# Altium footprint library Fairchild Semiconductor Footprints.PcbLib: 86 footprints (part 1 of 6)
Each footprint in its own frame and in the unit in brackets; x right, y up, seen from the top. Pads: shape width x height; smd on the part's side, far side on the other; paste and mask are expansions set on the pad; w line width, h text height; cw(c..) or ccw(c..) is an arc to the next point about the centre after c.
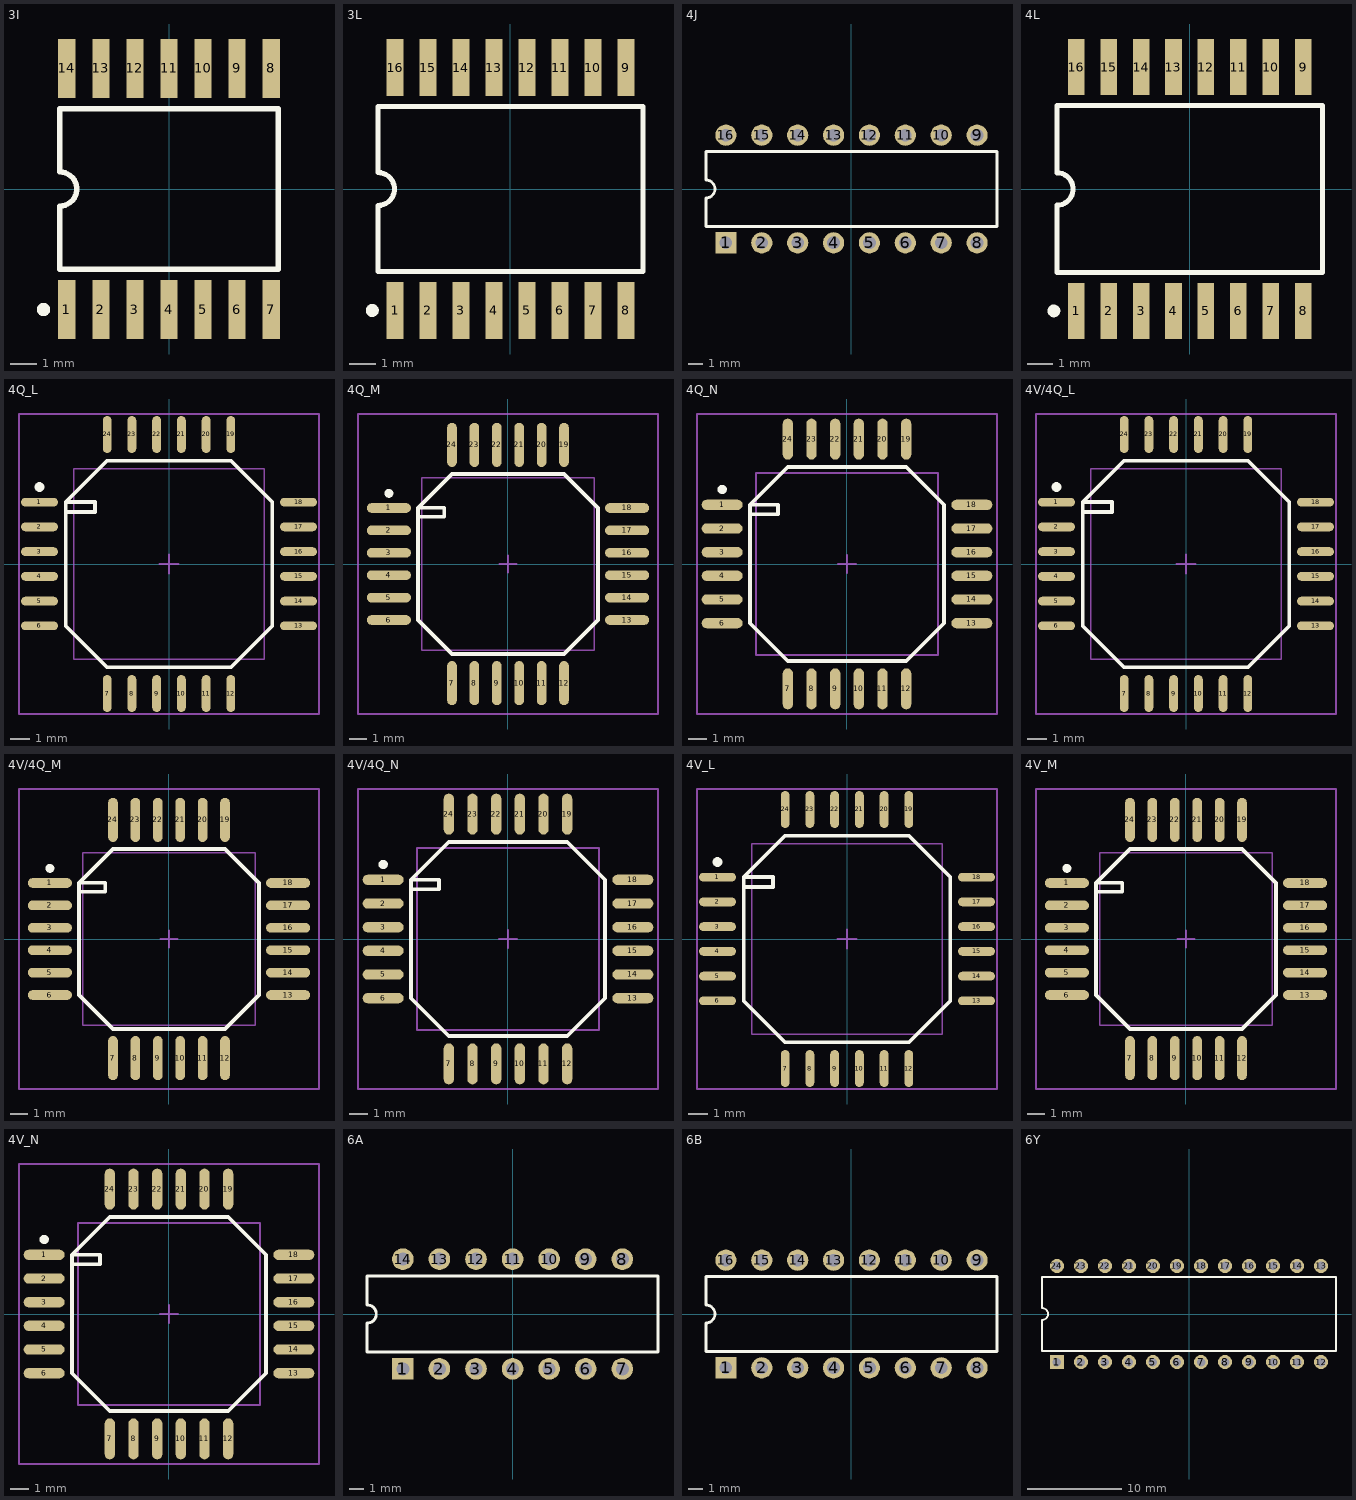
[diagram p0: the footprints below, top view; thin cyan lines are the x and y axes]

## 3I [mm] "DFP; 14 Leads; Body 8.1 x 6.6 mm (LxW max); Pitch 1.27 mm"
height 1.66
pads (14):
  rect 0.65x2.2 smd: 1(-3.81,-4.5) 2(-2.54,-4.5) 3(-1.27,-4.5) 4(0,-4.5) 5(1.27,-4.5) 6(2.54,-4.5) 7(3.81,-4.5) 8(3.81,4.5) 9(2.54,4.5) 10(1.27,4.5) 11(0,4.5) 12(-1.27,4.5) 13(-2.54,4.5) 14(-3.81,4.5)
Top Overlay:
  circle w0.25: c-4.685,-4.5 r0.125
  lines w0.2: -4.075,-3 -4.075,-0.635 ccw(c-4.075,0) -4.075,0.635 -4.075,3 4.075,3 4.075,-3 -4.075,-3

## 3L [mm] "DFP; 16 Leads; Body 10.2 x 7 mm (LxW max); Pitch 1.27 mm"
height 2.16
pads (16):
  rect 0.65x2.2 smd: 1(-4.445,-4.675) 2(-3.175,-4.675) 3(-1.905,-4.675) 4(-0.635,-4.675) 5(0.635,-4.675) 6(1.905,-4.675) 7(3.175,-4.675) 8(4.445,-4.675) 9(4.445,4.675) 10(3.175,4.675) 11(1.905,4.675) 12(0.635,4.675) 13(-0.635,4.675) 14(-1.905,4.675) 15(-3.175,4.675) 16(-4.445,4.675)
Top Overlay:
  circle w0.25: c-5.32,-4.675 r0.125
  lines w0.2: -5.1,-3.175 -5.1,-0.635 ccw(c-5.1,0) -5.1,0.635 -5.1,3.175 5.1,3.175 5.1,-3.175 -5.1,-3.175

## 4J [mm] "DIP; 16 Leads; Row Spacing 7.62 mm; Pitch 2.54 mm"
height 5.08
pads (16):
  rect 1.5x1.5 hole 0.9: 1(-8.89,-3.81)
  round 1.5 hole 0.9: 2(-6.35,-3.81) 3(-3.81,-3.81) 4(-1.27,-3.81) 5(1.27,-3.81) 6(3.81,-3.81) 7(6.35,-3.81) 8(8.89,-3.81) 9(8.89,3.81) 10(6.35,3.81) 11(3.81,3.81) 12(1.27,3.81) 13(-1.27,3.81) 14(-3.81,3.81) 15(-6.35,3.81) 16(-8.89,3.81)
Top Overlay:
  lines w0.2: -10.3,-2.65 -10.3,-0.635 ccw(c-10.3,0) -10.3,0.635 -10.3,2.65 10.3,2.65 10.3,-2.65 -10.3,-2.65

## 4L [mm] "DFP; 16 Leads; Body 10.4 x 7.2 mm (LxW max); Pitch 1.27 mm"
height 1.91
pads (16):
  rect 0.65x2.2 smd: 1(-4.445,-4.775) 2(-3.175,-4.775) 3(-1.905,-4.775) 4(-0.635,-4.775) 5(0.635,-4.775) 6(1.905,-4.775) 7(3.175,-4.775) 8(4.445,-4.775) 9(4.445,4.775) 10(3.175,4.775) 11(1.905,4.775) 12(0.635,4.775) 13(-0.635,4.775) 14(-1.905,4.775) 15(-3.175,4.775) 16(-4.445,4.775)
Top Overlay:
  circle w0.25: c-5.32,-4.775 r0.125
  lines w0.2: -5.2,-3.275 5.2,-3.275 5.2,3.275 -5.2,3.275 -5.2,0.635 cw(c-5.2,0) -5.2,-0.635 -5.2,-3.275

## 4Q_L [mm] "100-Pin Quad Cerpak 1.27 mm Pitch, IPC High Density"
height 2.2
pads (24):
  oval 1.9x0.45 smd: 1(-6.65,3.175) 2(-6.65,1.905) 3(-6.65,0.635) 4(-6.65,-0.635) 5(-6.65,-1.905) 6(-6.65,-3.175) 13(6.65,-3.175) 14(6.65,-1.905) 15(6.65,-0.635) 16(6.65,0.635) 17(6.65,1.905) 18(6.65,3.175)
  oval 0.45x1.9 smd: 7(-3.175,-6.65) 8(-1.905,-6.65) 9(-0.635,-6.65) 10(0.635,-6.65) 11(1.905,-6.65) 12(3.175,-6.65) 19(3.175,6.65) 20(1.905,6.65) 21(0.635,6.65) 22(-0.635,6.65) 23(-1.905,6.65) 24(-3.175,6.65)
Top Overlay:
  circle w0.25: c-6.65,3.95 r0.125
  lines w0.2: -5.3,2.675 -3.8,2.675 -3.8,3.175 -5.3,3.175 ; -5.3,3.175 -5.3,-3.175 -3.175,-5.3 3.175,-5.3 5.3,-3.175 5.3,3.175 3.175,5.3 -3.175,5.3 -5.3,3.175
Mechanical 13:
  lines w0.1: -4.89,-4.89 -4.89,4.89 4.89,4.89 4.89,-4.89 -4.89,-4.89
Mechanical 15:
  lines w0.1: -0.5,0 0.5,0 ; 0,-0.5 0,0.5 ; -7.7,-7.7 -7.7,7.7 7.7,7.7 7.7,-7.7 -7.7,-7.7
3D body: height 2.2, standoff 0, extent -4.89,-4.89 4.89,4.89

## 4Q_M [mm] "100-Pin Quad Cerpak 1.27 mm Pitch, IPC Low Density"
height 2.2
pads (24):
  oval 2.5x0.55 smd: 1(-6.75,3.175) 2(-6.75,1.905) 3(-6.75,0.635) 4(-6.75,-0.635) 5(-6.75,-1.905) 6(-6.75,-3.175) 13(6.75,-3.175) 14(6.75,-1.905) 15(6.75,-0.635) 16(6.75,0.635) 17(6.75,1.905) 18(6.75,3.175)
  oval 0.55x2.5 smd: 7(-3.175,-6.75) 8(-1.905,-6.75) 9(-0.635,-6.75) 10(0.635,-6.75) 11(1.905,-6.75) 12(3.175,-6.75) 19(3.175,6.75) 20(1.905,6.75) 21(0.635,6.75) 22(-0.635,6.75) 23(-1.905,6.75) 24(-3.175,6.75)
Top Overlay:
  circle w0.25: c-6.75,4 r0.125
  lines w0.2: -5.1,2.675 -3.6,2.675 -3.6,3.175 -5.1,3.175 ; -5.1,3.175 -3.175,5.1 3.175,5.1 5.1,3.175 5.1,-3.175 3.175,-5.1 -3.175,-5.1 -5.1,-3.175 -5.1,3.175
Mechanical 13:
  lines w0.1: -4.89,-4.89 4.89,-4.89 4.89,4.89 -4.89,4.89 -4.89,-4.89
Mechanical 15:
  lines w0.1: -0.5,0 0.5,0 ; 0,-0.5 0,0.5 ; -8.5,-8.5 8.5,-8.5 8.5,8.5 -8.5,8.5 -8.5,-8.5
3D body: height 2.2, standoff 0, extent -4.89,-4.89 4.89,4.89

## 4Q_N [mm] "100-Pin Quad Cerpak 1.27 mm Pitch, IPC Medium Density"
height 2.2
pads (24):
  oval 2.2x0.55 smd: 1(-6.7,3.175) 2(-6.7,1.905) 3(-6.7,0.635) 4(-6.7,-0.635) 5(-6.7,-1.905) 6(-6.7,-3.175) 13(6.7,-3.175) 14(6.7,-1.905) 15(6.7,-0.635) 16(6.7,0.635) 17(6.7,1.905) 18(6.7,3.175)
  oval 0.55x2.2 smd: 7(-3.175,-6.7) 8(-1.905,-6.7) 9(-0.635,-6.7) 10(0.635,-6.7) 11(1.905,-6.7) 12(3.175,-6.7) 19(3.175,6.7) 20(1.905,6.7) 21(0.635,6.7) 22(-0.635,6.7) 23(-1.905,6.7) 24(-3.175,6.7)
Top Overlay:
  circle w0.25: c-6.7,4 r0.125
  lines w0.2: -5.2,2.675 -3.7,2.675 -3.7,3.175 -5.2,3.175 ; -5.2,3.175 -5.2,-3.175 -3.175,-5.2 3.175,-5.2 5.2,-3.175 5.2,3.175 3.175,5.2 -3.175,5.2 -5.2,3.175
Mechanical 13:
  lines w0.1: -4.89,-4.89 -4.89,4.89 4.89,4.89 4.89,-4.89 -4.89,-4.89
Mechanical 15:
  lines w0.1: -0.5,0 0.5,0 ; 0,-0.5 0,0.5 ; -8.05,-8.05 -8.05,8.05 8.05,8.05 8.05,-8.05 -8.05,-8.05
3D body: height 2.2, standoff 0, extent -4.89,-4.89 4.89,4.89

## 4V/4Q_L [mm] "100-Pin Quad Cerpak 1.27 mm Pitch, IPC High Density"
height 2.2
pads (24):
  oval 1.9x0.45 smd: 1(-6.65,3.175) 2(-6.65,1.905) 3(-6.65,0.635) 4(-6.65,-0.635) 5(-6.65,-1.905) 6(-6.65,-3.175) 13(6.65,-3.175) 14(6.65,-1.905) 15(6.65,-0.635) 16(6.65,0.635) 17(6.65,1.905) 18(6.65,3.175)
  oval 0.45x1.9 smd: 7(-3.175,-6.65) 8(-1.905,-6.65) 9(-0.635,-6.65) 10(0.635,-6.65) 11(1.905,-6.65) 12(3.175,-6.65) 19(3.175,6.65) 20(1.905,6.65) 21(0.635,6.65) 22(-0.635,6.65) 23(-1.905,6.65) 24(-3.175,6.65)
Top Overlay:
  circle w0.25: c-6.65,3.95 r0.125
  lines w0.2: -5.3,2.675 -3.8,2.675 -3.8,3.175 -5.3,3.175 ; -5.3,3.175 -5.3,-3.175 -3.175,-5.3 3.175,-5.3 5.3,-3.175 5.3,3.175 3.175,5.3 -3.175,5.3 -5.3,3.175
Mechanical 13:
  lines w0.1: -4.89,-4.89 -4.89,4.89 4.89,4.89 4.89,-4.89 -4.89,-4.89
Mechanical 15:
  lines w0.1: -0.5,0 0.5,0 ; 0,-0.5 0,0.5 ; -7.7,-7.7 -7.7,7.7 7.7,7.7 7.7,-7.7 -7.7,-7.7
3D body: height 2.2, standoff 0, extent -4.89,-4.89 4.89,4.89

## 4V/4Q_M [mm] "100-Pin Quad Cerpak 1.27 mm Pitch, IPC Low Density"
height 2.2
pads (24):
  oval 2.5x0.55 smd: 1(-6.75,3.175) 2(-6.75,1.905) 3(-6.75,0.635) 4(-6.75,-0.635) 5(-6.75,-1.905) 6(-6.75,-3.175) 13(6.75,-3.175) 14(6.75,-1.905) 15(6.75,-0.635) 16(6.75,0.635) 17(6.75,1.905) 18(6.75,3.175)
  oval 0.55x2.5 smd: 7(-3.175,-6.75) 8(-1.905,-6.75) 9(-0.635,-6.75) 10(0.635,-6.75) 11(1.905,-6.75) 12(3.175,-6.75) 19(3.175,6.75) 20(1.905,6.75) 21(0.635,6.75) 22(-0.635,6.75) 23(-1.905,6.75) 24(-3.175,6.75)
Top Overlay:
  circle w0.25: c-6.75,4 r0.125
  lines w0.2: -5.1,2.675 -3.6,2.675 -3.6,3.175 -5.1,3.175 ; -5.1,3.175 -3.175,5.1 3.175,5.1 5.1,3.175 5.1,-3.175 3.175,-5.1 -3.175,-5.1 -5.1,-3.175 -5.1,3.175
Mechanical 13:
  lines w0.1: -4.89,-4.89 4.89,-4.89 4.89,4.89 -4.89,4.89 -4.89,-4.89
Mechanical 15:
  lines w0.1: -0.5,0 0.5,0 ; 0,-0.5 0,0.5 ; -8.5,-8.5 8.5,-8.5 8.5,8.5 -8.5,8.5 -8.5,-8.5
3D body: height 2.2, standoff 0, extent -4.89,-4.89 4.89,4.89

## 4V/4Q_N [mm] "100-Pin Quad Cerpak 1.27 mm Pitch, IPC Medium Density"
height 2.2
pads (24):
  oval 2.2x0.55 smd: 1(-6.7,3.175) 2(-6.7,1.905) 3(-6.7,0.635) 4(-6.7,-0.635) 5(-6.7,-1.905) 6(-6.7,-3.175) 13(6.7,-3.175) 14(6.7,-1.905) 15(6.7,-0.635) 16(6.7,0.635) 17(6.7,1.905) 18(6.7,3.175)
  oval 0.55x2.2 smd: 7(-3.175,-6.7) 8(-1.905,-6.7) 9(-0.635,-6.7) 10(0.635,-6.7) 11(1.905,-6.7) 12(3.175,-6.7) 19(3.175,6.7) 20(1.905,6.7) 21(0.635,6.7) 22(-0.635,6.7) 23(-1.905,6.7) 24(-3.175,6.7)
Top Overlay:
  circle w0.25: c-6.7,4 r0.125
  lines w0.2: -5.2,2.675 -3.7,2.675 -3.7,3.175 -5.2,3.175 ; -5.2,3.175 -5.2,-3.175 -3.175,-5.2 3.175,-5.2 5.2,-3.175 5.2,3.175 3.175,5.2 -3.175,5.2 -5.2,3.175
Mechanical 13:
  lines w0.1: -4.89,-4.89 -4.89,4.89 4.89,4.89 4.89,-4.89 -4.89,-4.89
Mechanical 15:
  lines w0.1: -0.5,0 0.5,0 ; 0,-0.5 0,0.5 ; -8.05,-8.05 -8.05,8.05 8.05,8.05 8.05,-8.05 -8.05,-8.05
3D body: height 2.2, standoff 0, extent -4.89,-4.89 4.89,4.89

## 4V_L [mm] "100-Pin Quad Cerpak 1.27 mm Pitch, IPC High Density"
height 2.2
pads (24):
  oval 1.9x0.45 smd: 1(-6.65,3.175) 2(-6.65,1.905) 3(-6.65,0.635) 4(-6.65,-0.635) 5(-6.65,-1.905) 6(-6.65,-3.175) 13(6.65,-3.175) 14(6.65,-1.905) 15(6.65,-0.635) 16(6.65,0.635) 17(6.65,1.905) 18(6.65,3.175)
  oval 0.45x1.9 smd: 7(-3.175,-6.65) 8(-1.905,-6.65) 9(-0.635,-6.65) 10(0.635,-6.65) 11(1.905,-6.65) 12(3.175,-6.65) 19(3.175,6.65) 20(1.905,6.65) 21(0.635,6.65) 22(-0.635,6.65) 23(-1.905,6.65) 24(-3.175,6.65)
Top Overlay:
  circle w0.25: c-6.65,3.95 r0.125
  lines w0.2: -5.3,2.675 -3.8,2.675 -3.8,3.175 -5.3,3.175 ; -5.3,3.175 -5.3,-3.175 -3.175,-5.3 3.175,-5.3 5.3,-3.175 5.3,3.175 3.175,5.3 -3.175,5.3 -5.3,3.175
Mechanical 13:
  lines w0.1: -4.89,-4.89 -4.89,4.89 4.89,4.89 4.89,-4.89 -4.89,-4.89
Mechanical 15:
  lines w0.1: -0.5,0 0.5,0 ; 0,-0.5 0,0.5 ; -7.7,-7.7 -7.7,7.7 7.7,7.7 7.7,-7.7 -7.7,-7.7
3D body: height 2.2, standoff 0, extent -4.89,-4.89 4.89,4.89

## 4V_M [mm] "100-Pin Quad Cerpak 1.27 mm Pitch, IPC Low Density"
height 2.2
pads (24):
  oval 2.5x0.55 smd: 1(-6.75,3.175) 2(-6.75,1.905) 3(-6.75,0.635) 4(-6.75,-0.635) 5(-6.75,-1.905) 6(-6.75,-3.175) 13(6.75,-3.175) 14(6.75,-1.905) 15(6.75,-0.635) 16(6.75,0.635) 17(6.75,1.905) 18(6.75,3.175)
  oval 0.55x2.5 smd: 7(-3.175,-6.75) 8(-1.905,-6.75) 9(-0.635,-6.75) 10(0.635,-6.75) 11(1.905,-6.75) 12(3.175,-6.75) 19(3.175,6.75) 20(1.905,6.75) 21(0.635,6.75) 22(-0.635,6.75) 23(-1.905,6.75) 24(-3.175,6.75)
Top Overlay:
  circle w0.25: c-6.75,4 r0.125
  lines w0.2: -5.1,2.675 -3.6,2.675 -3.6,3.175 -5.1,3.175 ; -5.1,3.175 -3.175,5.1 3.175,5.1 5.1,3.175 5.1,-3.175 3.175,-5.1 -3.175,-5.1 -5.1,-3.175 -5.1,3.175
Mechanical 13:
  lines w0.1: -4.89,-4.89 4.89,-4.89 4.89,4.89 -4.89,4.89 -4.89,-4.89
Mechanical 15:
  lines w0.1: -0.5,0 0.5,0 ; 0,-0.5 0,0.5 ; -8.5,-8.5 8.5,-8.5 8.5,8.5 -8.5,8.5 -8.5,-8.5
3D body: height 2.2, standoff 0, extent -4.89,-4.89 4.89,4.89

## 4V_N [mm] "100-Pin Quad Cerpak 1.27 mm Pitch, IPC Medium Density"
height 2.2
pads (24):
  oval 2.2x0.55 smd: 1(-6.7,3.175) 2(-6.7,1.905) 3(-6.7,0.635) 4(-6.7,-0.635) 5(-6.7,-1.905) 6(-6.7,-3.175) 13(6.7,-3.175) 14(6.7,-1.905) 15(6.7,-0.635) 16(6.7,0.635) 17(6.7,1.905) 18(6.7,3.175)
  oval 0.55x2.2 smd: 7(-3.175,-6.7) 8(-1.905,-6.7) 9(-0.635,-6.7) 10(0.635,-6.7) 11(1.905,-6.7) 12(3.175,-6.7) 19(3.175,6.7) 20(1.905,6.7) 21(0.635,6.7) 22(-0.635,6.7) 23(-1.905,6.7) 24(-3.175,6.7)
Top Overlay:
  circle w0.25: c-6.7,4 r0.125
  lines w0.2: -5.2,2.675 -3.7,2.675 -3.7,3.175 -5.2,3.175 ; -5.2,3.175 -5.2,-3.175 -3.175,-5.2 3.175,-5.2 5.2,-3.175 5.2,3.175 3.175,5.2 -3.175,5.2 -5.2,3.175
Mechanical 13:
  lines w0.1: -4.89,-4.89 -4.89,4.89 4.89,4.89 4.89,-4.89 -4.89,-4.89
Mechanical 15:
  lines w0.1: -0.5,0 0.5,0 ; 0,-0.5 0,0.5 ; -8.05,-8.05 -8.05,8.05 8.05,8.05 8.05,-8.05 -8.05,-8.05
3D body: height 2.2, standoff 0, extent -4.89,-4.89 4.89,4.89

## 6A [mm] "DIP; 14 Leads; Row Spacing 7.62 mm; Pitch 2.54 mm"
height 5.08
pads (14):
  rect 1.5x1.5 hole 0.9: 1(-7.62,-3.81)
  round 1.5 hole 0.9: 2(-5.08,-3.81) 3(-2.54,-3.81) 4(0,-3.81) 5(2.54,-3.81) 6(5.08,-3.81) 7(7.62,-3.81) 8(7.62,3.81) 9(5.08,3.81) 10(2.54,3.81) 11(0,3.81) 12(-2.54,3.81) 13(-5.08,3.81) 14(-7.62,3.81)
Top Overlay:
  lines w0.2: -10.1,-2.65 -10.1,-0.635 ccw(c-10.1,0) -10.1,0.635 -10.1,2.65 10.1,2.65 10.1,-2.65 -10.1,-2.65

## 6B [mm] "DIP; 16 Leads; Row Spacing 7.62 mm; Pitch 2.54 mm"
height 5.08
pads (16):
  rect 1.5x1.5 hole 0.9: 1(-8.89,-3.81)
  round 1.5 hole 0.9: 2(-6.35,-3.81) 3(-3.81,-3.81) 4(-1.27,-3.81) 5(1.27,-3.81) 6(3.81,-3.81) 7(6.35,-3.81) 8(8.89,-3.81) 9(8.89,3.81) 10(6.35,3.81) 11(3.81,3.81) 12(1.27,3.81) 13(-1.27,3.81) 14(-3.81,3.81) 15(-6.35,3.81) 16(-8.89,3.81)
Top Overlay:
  lines w0.2: -10.3,-2.65 -10.3,-0.635 ccw(c-10.3,0) -10.3,0.635 -10.3,2.65 10.3,2.65 10.3,-2.65 -10.3,-2.65

## 6Y [mm] "DIP; 24 Leads; Row Spacing 10.16 mm; Pitch 2.54 mm"
height 5.08
pads (24):
  rect 1.5x1.5 hole 0.9: 1(-13.97,-5.08)
  round 1.5 hole 0.9: 2(-11.43,-5.08) 3(-8.89,-5.08) 4(-6.35,-5.08) 5(-3.81,-5.08) 6(-1.27,-5.08) 7(1.27,-5.08) 8(3.81,-5.08) 9(6.35,-5.08) 10(8.89,-5.08) 11(11.43,-5.08) 12(13.97,-5.08) 13(13.97,5.08) 14(11.43,5.08) 15(8.89,5.08) 16(6.35,5.08) 17(3.81,5.08) 18(1.27,5.08) 19(-1.27,5.08) 20(-3.81,5.08) 21(-6.35,5.08) 22(-8.89,5.08) 23(-11.43,5.08) 24(-13.97,5.08)
Top Overlay:
  lines w0.2: -15.55,-3.9 15.55,-3.9 15.55,3.9 -15.55,3.9 -15.55,0.635 cw(c-15.55,0) -15.55,-0.635 -15.55,-3.9